# Altium schematic symbol library DI_DIODE.Schlib: 1 symbol
Pins are listed as number, name and electrical type; pins without a type are passive.

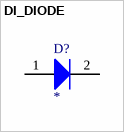
[diagram p0: symbol DI_DIODE]

## DI_DIODE
designator D?
1 Amp General Purpose Rectifier
pins: 1 A, 2 K